# EAGLE library part USB-SHIELDED (library VideoConnectors)
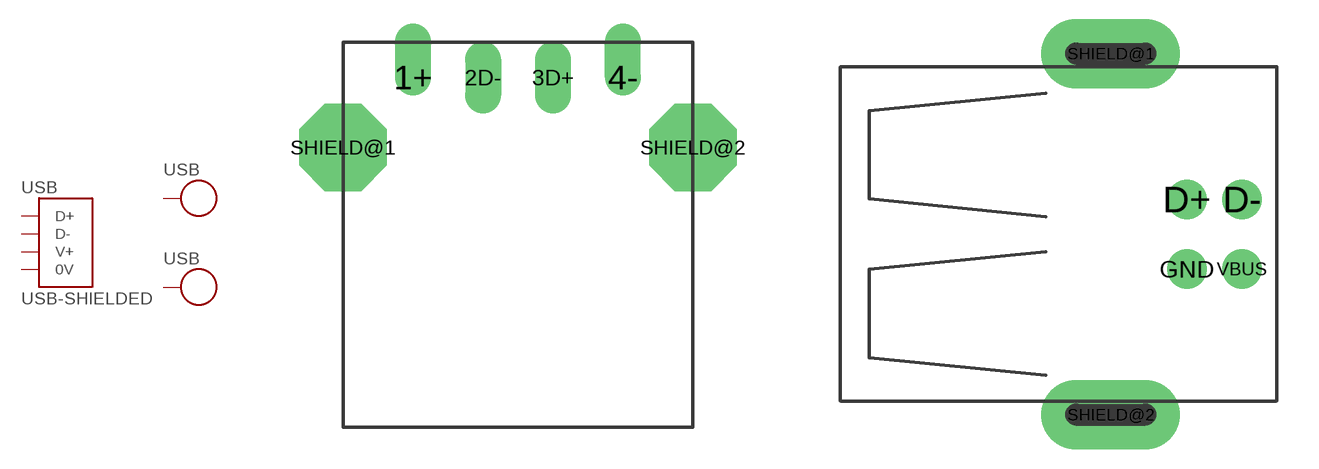
[diagram p3: symbol with the pads of USB1AF-SIP; footprints USB1AF-SIP, USB-B-H]

Designator prefix USB; gates @2=SHIELD @3=SHIELD @1=USB

## USB-SHIELDEDAFS  [USB1AF-SIP]
1+  @1:V+  pwr
2D-  @1:D-
3D+  @1:D+
4-  @1:0V  pwr
SHIELD@1  @2:SHIELD  pas
SHIELD@2  @3:SHIELD  pas

## USB-SHIELDEDBFSH  [USB-B-H]
D+  @1:D+
D-  @1:D-
GND  @1:0V  pwr
SHIELD@1  @2:SHIELD  pas
SHIELD@2  @3:SHIELD  pas
VBUS  @1:V+  pwr

## USB-SHIELDEDMS  [USB-MICRO-1050170001]
1  @1:V+  pwr
2  @1:D-
3  @1:D+
5  @1:0V  pwr
SH3  @2:SHIELD  pas
SH4  @3:SHIELD  pas

## USB-SHIELDEDBFSH-NS  [USB-B-H-NO_SLOTS]
Pads as for USB-B-H

## Footprint USB1AF-SIP (pad centres in mm)
drill 0.8 offset: 1+ -3.81,0; 4- 3.81,0
drill 0.8 long: 2D- -1.27,0; 3D+ 1.27,0
drill 1.6 pad 3.175 octagon: SHIELD@1 -6.35,-2.54; SHIELD@2 6.35,-2.54

## Footprint USB-B-H (pad centres in mm)
drill 0.8 pad 1.422: D+ 12.497,1.25; D- 14.478,1.25; GND 12.497,-1.25; VBUS 14.478,-1.25
drill 0.8 pad 2.5 long: SHIELD@1 9.75,6.5; SHIELD@2 9.75,-6.5

## Footprint USB-MICRO-1050170001 (pad centres in mm)
smd 2 x 0.4: 1 4.15,1.3; 2 4.15,0.65; 3 4.15,0; 4 4.15,-0.65; 5 4.15,-1.3
drill 1 pad 1.9 offset: SH1 1.45,3.49; SH2 1.45,-3.49
drill 0.7 pad 1.25 offset: SH3 4.15,2.5; SH4 4.15,-2.5

## Footprint USB-B-H-NO_SLOTS (pad centres in mm)
drill 0.8 pad 1.422: D+ 12.497,1.25; D- 14.478,1.25; GND 12.497,-1.25; VBUS 14.478,-1.25
drill 2.54 pad 5.08: SHIELD@1 9.75,6.5; SHIELD@2 9.75,-6.5